# EAGLE library part TERM_RD50_MAINS (library os1)
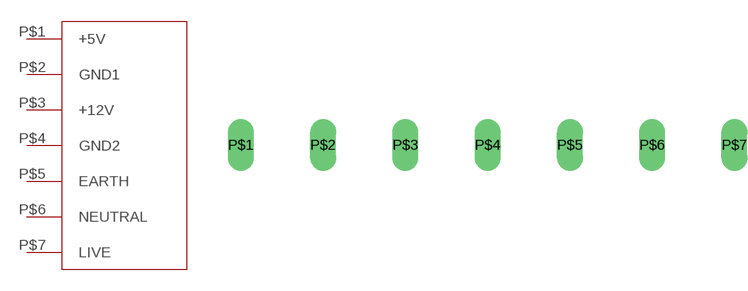
[diagram p4: symbol with the pads of TERMINAL9500_MAINS; footprint TERMINAL9500_MAINS]

Designator prefix -

## TERM_RD50_MAINS  [TERMINAL9500_MAINS]
P$1  +5V
P$2  GND1
P$3  +12V
P$4  GND2
P$5  EARTH
P$6  NEUTRAL
P$7  LIVE

## Footprint TERMINAL9500_MAINS (pad centres in mm)
drill 2 long: P$1 0,0; P$2 9.5,0; P$3 19,0; P$4 28.5,0; P$5 38,0; P$6 47.5,0; P$7 57,0